# Altium footprint library BNC 50OHM Edge ACX2259.PcbLib: 1 footprints
Each footprint in its own frame and in the unit in brackets; x right, y up, seen from the top. Pads: shape width x height; smd on the part's side, far side on the other; paste and mask are expansions set on the pad; w line width, h text height; cw(c..) or ccw(c..) is an arc to the next point about the centre after c.
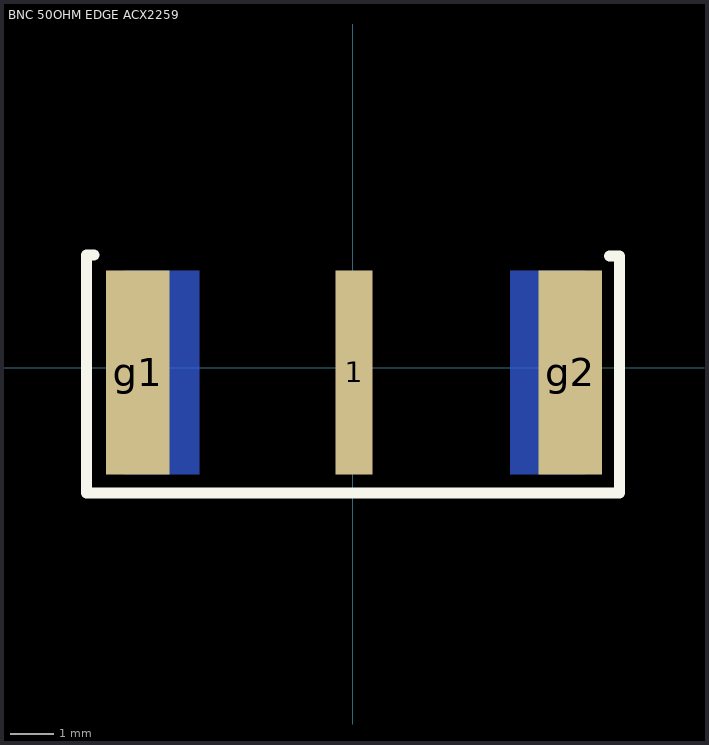
[diagram p0: the footprint, top view; thin cyan lines are the x and y axes]

## BNC 50OHM EDGE ACX2259 [mil]
pads (3):
  rect 34x186 smd: 1(1,-4)
  rect 58x186 smd: g1(-196,-4) g2(198,-4)
Bottom Layer:
  rectangle: 143,-97 212,89
  rectangle: -209,-97 -140,89
Top Overlay:
  lines w10: -236,103 -243,103 -243,-114 243,-114 243,102 234,102
3D body: height 232.5, standoff -200.5, extent -220.5,-71 212.5,597